# Altium footprint library Keystone.PcbLib: 1 footprints
Each footprint in its own frame and in the unit in brackets; x right, y up, seen from the top. Pads: shape width x height; smd on the part's side, far side on the other; paste and mask are expansions set on the pad; w line width, h text height; cw(c..) or ccw(c..) is an arc to the next point about the centre after c.
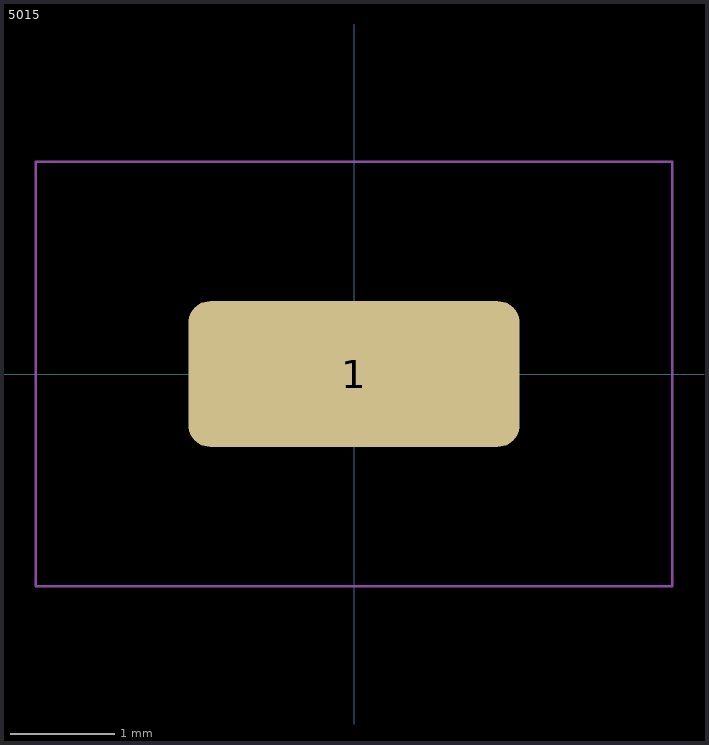
[diagram p0: the footprint, top view; thin cyan lines are the x and y axes]

## 5015 [mil] "Example Component"
height 20
pads (1):
  rrect30% 125x55 smd paste-10 mask+1.5: 1(0,0)
Top Designator:
  text ".Designator" at -127.64,-12.5 h35
Top Courtyard:
  lines w1: -120,-80 120,-80 120,80 -120,80 -120,-80
3D body "keystone-PN5015.STEP": height 60, standoff 0, extent -61.5,-20 61.5,20